# Altium footprint library TARGET.PcbLib: 1 footprints
Each footprint in its own frame and in the unit in brackets; x right, y up, seen from the top. Pads: shape width x height; smd on the part's side, far side on the other; paste and mask are expansions set on the pad; w line width, h text height; cw(c..) or ccw(c..) is an arc to the next point about the centre after c.
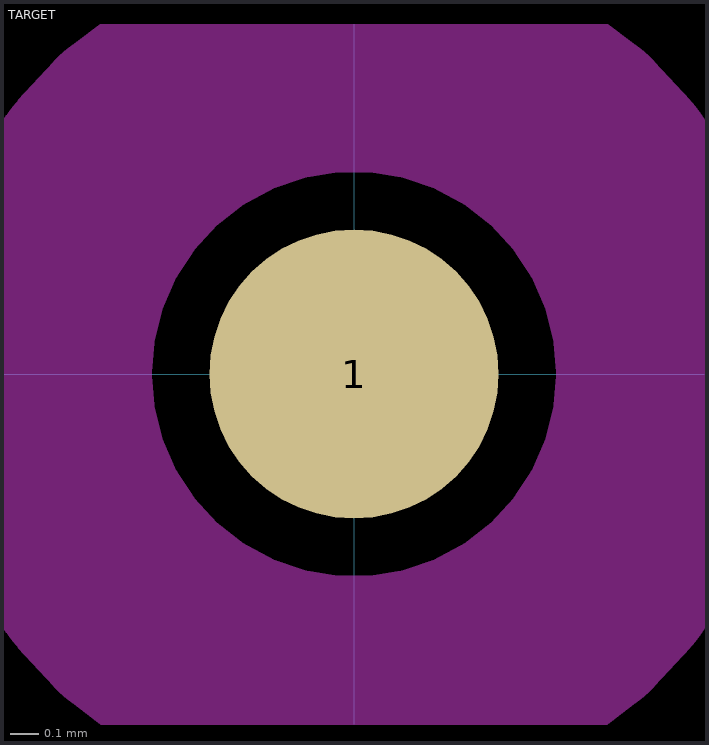
[diagram p0: the footprint, top view; thin cyan lines are the x and y axes]

## TARGET [mm]
pads (1):
  round 1 smd mask+1: 1(0,0)
Top Layer keep-out:
  circle w0.8: c0,0 r1.1
Mechanical 1:
  text ".Designator" at -0.15,0.425 h0.38